# Altium schematic symbol library Power_ICs.SchLib: 10 symbols
Pins are listed as number, name and electrical type; pins without a type are passive.

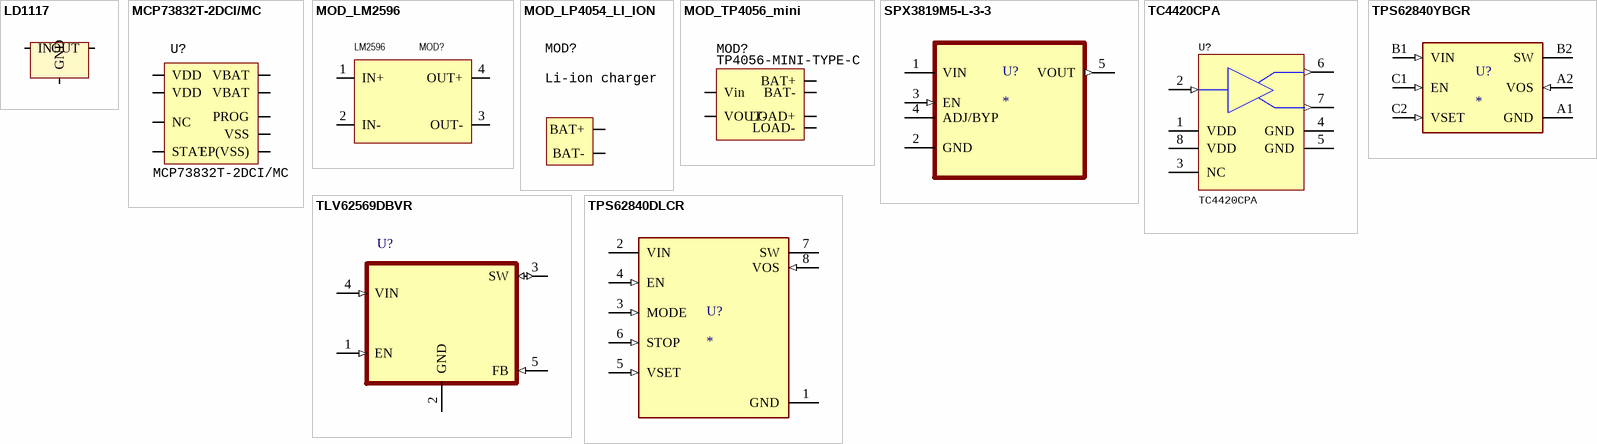
[diagram p0: symbols LD1117 to TPS62840YBGR]

## LD1117
designator U?  (value not drawn)
footprint SOT-223
pins: 1 GND, 2 OUT, 3 IN

## MCP73832T-2DCI/MC
designator U?
Li-ion 4.2 V charger; Voltage: 3.75V...6V; Cut-Off Voltage: 4.2 V; Pre-Charge Voltage: none; I-charge-max: 500 mA; Package: 8LD DFN
footprint SON50P200X300X100-9N
pins: 1 VDD, 2 VDD, 3 VBAT, 4 VBAT, 5 STAT, 6 VSS, 7 NC, 8 PROG, 9 EP(VSS)

## MOD_LM2596
designator MOD?, comment LM2596
LM2596 DC-DC step up power board / 43x21 mm
footprint LM2596_board (LM2596 DC-DC step up power modul / 43x21 mm)
pins: 1 IN+, 2 IN-, 3 OUT-, 4 OUT+

## MOD_LP4054_LI_ION
designator MOD?, comment Li-ion charger
USB C Li-ion charger / LP4054(?) based; Voltage: 5V
footprint 2_wire_terminal (2.54 mm step simple terminal. / Can be used with wire or PLS-2)
pins: 1 BAT+, 2 BAT-

## MOD_TP4056_mini
designator MOD?, comment TP4056-MINI-TYPE-C
5-6V Vin / 3.7V lithium / 4.2/4.35 V cut-off / 2.4 over discharge protection / 1A charge current (default) / 100mA pre-charge when drops down to 2.9V
footprint TP4056_MINI_TYPE_C_FOOTPRINT
pins: 1 Vin "Time pulse signal", 2 VOUT- "Time pulse signal", 3 LOAD- "Time pulse signal", 4 BAT- "Time pulse signal", 5 BAT+ "Time pulse signal", 6 LOAD+ "Time pulse signal"

## SPX3819M5-L-3-3
designator U?
SPX3819 Series 3.3 V Fixed Output 500 mA SMT LDO Voltage Regulator - SOT-23-5; MF: MaxLinear, Inc.; MP: SPX3819M5-L-3-3; SnapEDA_Link: https://www.snapeda.com/parts/SPX3819M5-L-3-3/MaxLinear/view-part/?ref=snap; Package: SOT-23-5 Exar; Value: *; Check_prices: https://www.snapeda.com/parts/SPX3819M5-L-3-3/MaxLinear/view-part/?ref=eda
footprint SOT95P280X145-5N
pins: 1 VIN (power), 2 GND, 3 EN (in), 4 ADJ/BYP, 5 VOUT (out)

## TC4420CPA
designator U?
6A High-Speed MOSFET Driver, Non-Inverting, Commercial Temperature; Code_JEDEC: MS-001-BA; PackageReference: PDIP300-PA8; PackageVersion: revBB, Aug-2009; PackageDescription: 8-Lead Plastic Dual In-Line (PA) - 300 mil Body [PDIP]; DatasheetVersion: revC, Aug-2004
footprint SOIC-8
pins: 1 VDD (power), 2 IN (in), 3 NC, 4 GND (power), 5 GND (power), 6 OUT (out), 7 OUT (out), 8 VDD (power)

## TLV62569DBVR
designator U?  (value not drawn)
2.5V-5.5V input, 2-A high efficiency step-down buck converter in SOT23 and SOT563 package; MF: Texas Instruments; Vin: 2.5V...5.5V; SnapEDA_Link: https://www.snapeda.com/parts/TLV62569DBVR/Texas+Instruments/view-part/?ref=snap; Package: SOT-23-5; Value: *; MP: TLV62569DBVR; Check_prices: https://www.snapeda.com/parts/TLV62569DBVR/Texas+Instruments/view-part/?ref=eda
footprint SOT95P280X145-5N
pins: 1 EN (in), 2 GND (power), 3 SW (io), 4 VIN (in), 5 FB (in)

## TPS62840DLCR
designator U?
None <a href="https://snapeda.com/parts/TPS62840DLCR/Texas%20Instruments/view-part/?ref=eda">Check prices</a>; Voltage: 1.8V...6.5V; Price: None; MP: TPS62840DLCR; Availability: Unavailable; Package: SON50P200X150X100-8N; Value: *
footprint SON50P200X150X100-8N
pins: 1 GND (power), 2 VIN (power), 3 MODE (in), 4 EN (in) "Enable pin. A high level enables the device and a low level turns the device off", 5 VSET (in) "Connecting a resistor to GND sets the output voltage when the converter is enabled", 6 STOP (in) "STOP Switching pin. When this pin is logic high, the converter stops", 7 SW (power), 8 VOS (in)

## TPS62840YBGR
designator U?
60-nA quiescent current (IQ), 1.8-V to 6.5-VIN, high-efficiency 750-mA step-down converter; Value: None; MF: Texas Instruments; MP: TPS62840YBGR; Voltage: 1.8V...6.5V; SnapEDA_Link: https://www.snapeda.com/parts/TPS62840YBGR/Texas+Instruments/view-part/?ref=snap; Package: DSBGA-6; Check_prices: https://www.snapeda.com/parts/TPS62840YBGR/Texas+Instruments/view-part/?ref=eda
footprint BGA6N40P3X2_146X96X50N
pins: A1 GND (power), A2 VOS (in), B1 VIN (in), B2 SW, C1 EN (in), C2 VSET (in)